# Altium footprint library MT41K256M16TW-107.PcbLib: 1 footprints
Each footprint in its own frame and in the unit in brackets; x right, y up, seen from the top. Pads: shape width x height; smd on the part's side, far side on the other; paste and mask are expansions set on the pad; w line width, h text height; cw(c..) or ccw(c..) is an arc to the next point about the centre after c.
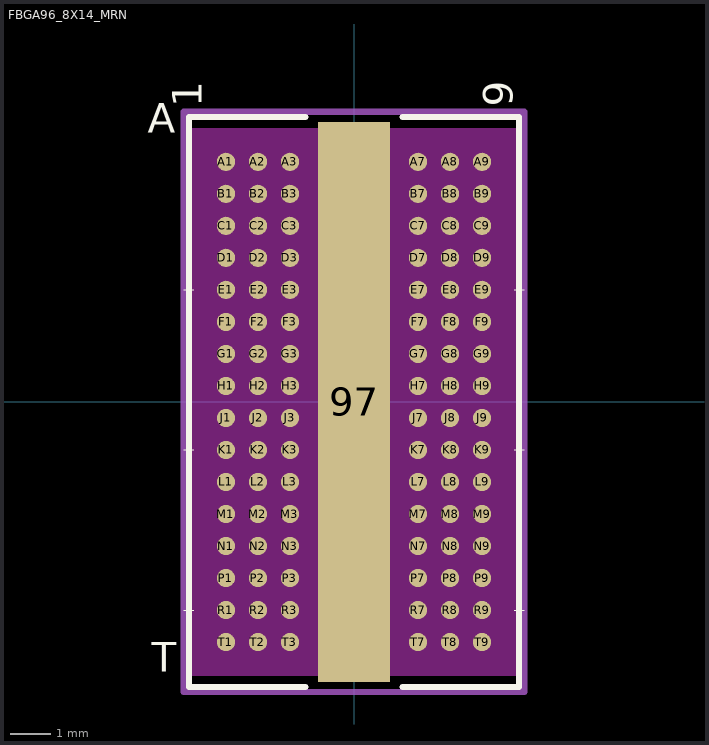
[diagram p0: the footprint, top view; thin cyan lines are the x and y axes]

## FBGA96_8X14_MRN [mil]
pads (97):
  rect 71x551 smd paste-275 mask+0: 97(0,0)
  round 18 smd paste+0 mask+0: A1(-125.98,236.22) A2(-94.49,236.22) A3(-62.99,236.22) A7(62.99,236.22) A8(94.49,236.22) A9(125.98,236.22) B1(-125.98,204.72) B2(-94.49,204.72) B3(-62.99,204.72) B7(62.99,204.72) B8(94.49,204.72) B9(125.98,204.72) C1(-125.98,173.23) C2(-94.49,173.23) C3(-62.99,173.23) C7(62.99,173.23) C8(94.49,173.23) C9(125.98,173.23) D1(-125.98,141.73) D2(-94.49,141.73) D3(-62.99,141.73) D7(62.99,141.73) D8(94.49,141.73) D9(125.98,141.73) E1(-125.98,110.24) E2(-94.49,110.24) E3(-62.99,110.24) E7(62.99,110.24) E8(94.49,110.24) E9(125.98,110.24) F1(-125.98,78.74) F2(-94.49,78.74) F3(-62.99,78.74) F7(62.99,78.74) F8(94.49,78.74) F9(125.98,78.74) G1(-125.98,47.24) G2(-94.49,47.24) G3(-62.99,47.24) G7(62.99,47.24) G8(94.49,47.24) G9(125.98,47.24) H1(-125.98,15.75) H2(-94.49,15.75) H3(-62.99,15.75) H7(62.99,15.75) H8(94.49,15.75) H9(125.98,15.75) J1(-125.98,-15.75) J2(-94.49,-15.75) J3(-62.99,-15.75) J7(62.99,-15.75) J8(94.49,-15.75) J9(125.98,-15.75) K1(-125.98,-47.24) K2(-94.49,-47.24) K3(-62.99,-47.24) K7(62.99,-47.24) K8(94.49,-47.24) K9(125.98,-47.24) L1(-125.98,-78.74) L2(-94.49,-78.74) L3(-62.99,-78.74) L7(62.99,-78.74) L8(94.49,-78.74) L9(125.98,-78.74) M1(-125.98,-110.24) M2(-94.49,-110.24) M3(-62.99,-110.24) M7(62.99,-110.24) M8(94.49,-110.24) M9(125.98,-110.24) N1(-125.98,-141.73) N2(-94.49,-141.73) N3(-62.99,-141.73) N7(62.99,-141.73) N8(94.49,-141.73) N9(125.98,-141.73) P1(-125.98,-173.23) P2(-94.49,-173.23) P3(-62.99,-173.23) P7(62.99,-173.23) P8(94.49,-173.23) P9(125.98,-173.23) R1(-125.98,-204.72) R2(-94.49,-204.72) R3(-62.99,-204.72) R7(62.99,-204.72) R8(94.49,-204.72) R9(125.98,-204.72) T1(-125.98,-236.22) T2(-94.49,-236.22) T3(-62.99,-236.22) T7(62.99,-236.22) T8(94.49,-236.22) T9(125.98,-236.22)
Top Overlay:
  lines w1: -167.5,-204.72 -157.5,-204.72 ; -167.5,-47.24 -157.5,-47.24 ; -167.5,110.24 -157.5,110.24 ; 157.5,-204.72 167.5,-204.72 ; 157.5,-47.24 167.5,-47.24 ; 157.5,110.24 167.5,110.24
  lines w6: -47.61,-280.5 -162.5,-280.5 -162.5,280.5 -47.61,280.5 ; 47.61,-280.5 162.5,-280.5 162.5,280.5 47.61,280.5
  text "9" at 165.98,290.5 h50
  text "1" at -140,290 h50
  text "T" at -198.85,-275 h50
  text "A" at -202.66,255 h50
Bottom Overlay:
  text "9" at 140,290 h50
  text "1" at -165.98,290.5 h50
  text "T" at -175,-275 h50
  text "A" at -175,255 h50
Top Paste:
  region: 31.56,-229.35 -31.56,-229.35 -31.56,-271.56 31.56,-271.56
  region: 31.56,-179.26 -31.56,-179.26 -31.56,-221.47 31.56,-221.47
  region: 31.56,-129.16 -31.56,-129.16 -31.56,-171.38 31.56,-171.38
  region: 31.56,-79.07 -31.56,-79.07 -31.56,-121.29 31.56,-121.29
  region: 31.56,-28.98 -31.56,-28.98 -31.56,-71.2 31.56,-71.2
  region: 31.56,21.11 -31.56,21.11 -31.56,-21.11 31.56,-21.11
  region: 31.56,71.2 -31.56,71.2 -31.56,28.98 31.56,28.98
  region: 31.56,121.29 -31.56,121.29 -31.56,79.07 31.56,79.07
  region: 31.56,171.38 -31.56,171.38 -31.56,129.16 31.56,129.16
  region: 31.56,221.47 -31.56,221.47 -31.56,179.26 31.56,179.26
  region: 31.56,271.56 -31.56,271.56 -31.56,229.35 31.56,229.35
Keep-Out Layer:
  region: -159.23,-269.47 -159.23,269.47 159.23,269.47 159.23,-269.47
Mechanical 15:
  lines w6: -167.5,-285.5 167.5,-285.5 167.5,285.5 -167.5,285.5 -167.5,-285.5
3D body: height 10, standoff 0, extent 0,0 10,10
3D body "FBGA96_8X14_MRN.step": height 47.09, standoff 0.02, extent -157.47,-275.51 157.49,275.52